# Altium schematic symbol library CLM3C-AKW-CUAVB253.SchLib: 1 symbol
Pins are listed as number, name and electrical type; pins without a type are passive.

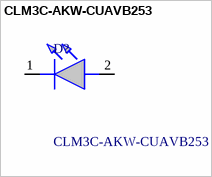
[diagram p0: symbol CLM3C-AKW-CUAVB253]

## CLM3C-AKW-CUAVB253
designator D?
Standard LEDs - SMD Amber LED Cree PLCC2 1 in 1 SMD LED CLM3C-RKW/AKW; Manufacturer_Name: Wolfspeed; Geometry.Height: 1.4mm; Manufacturer_Part_Number: CLM3C-AKW-CUAVB253; Mouser Part Number: 941-CLM3CAKWCUAVB253; Mouser Price/Stock: https://www.mouser.co.uk/ProductDetail/Cree-LED/CLM3C-AKW-CUAVB253?qs=3AcK5DacLbqERPW6%2FzkoPg%3D%3D; Arrow Part Number: *; Arrow Price/Stock: *; Datasheet Link: https://www.mouser.co.uk/datasheet/2/90/CLM3CRKWAKW1156-274590.pdf
footprint LEDM3020X140N
pins: 1 K, 2 A